# Altium schematic symbol library Cap_Murata_GRM21BR71C105KA01L_eec.SchLib: 1 symbol
Pins are listed as number, name and electrical type; pins without a type are passive.

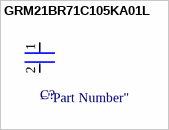
[diagram p0: symbol GRM21BR71C105KA01L]

## GRM21BR71C105KA01L
designator C?  (value not drawn)
pins: 1, 2